# Altium integrated library FDA69N25.IntLib: 1 symbol
Pins are listed as number, name and electrical type; pins without a type are passive.

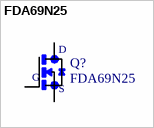
[diagram p0: symbol FDA69N25]

## FDA69N25
designator Q?
Trans MOSFET N-CH 250V 69A 3-Pin_3+Tab_ TO-3P_N_ Rail; MF: ON Semiconductor; Price: 2.85 USD; Availability: Good; MP: FDA69N25; Package: TO-3 ON Semiconductor; SnapEDA_Link: https://www.snapeda.com/parts/FDA69N25/ON%20Semiconductor/view-part/?ref=snap; Value: *
footprint TO-3PN_V_FDA69N25(Primary)
pins: D, G, S